# EAGLE library part APDS-9700 (library robotter)
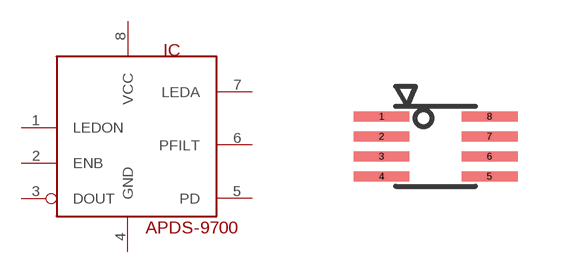
[diagram p7: symbol with the pads of QFN8; footprint QFN8]

Designator prefix IC

## APDS-9700  [QFN8]
1  LEDON
2  ENB
3  DOUT
4  GND
5  PD  in
6  PFILT
7  LEDA
8  VCC

## Footprint QFN8 (pad centres in mm)
smd 1.4 x 0.25: 1 -1.35,0.75; 2 -1.35,0.25; 3 -1.35,-0.25; 4 -1.35,-0.75; 5 1.35,-0.75; 6 1.35,-0.25; 7 1.35,0.25; 8 1.35,0.75